# Altium footprint library STPS5L25BTR.PcbLib: 1 footprints
Each footprint in its own frame and in the unit in brackets; x right, y up, seen from the top. Pads: shape width x height; smd on the part's side, far side on the other; paste and mask are expansions set on the pad; w line width, h text height; cw(c..) or ccw(c..) is an arc to the next point about the centre after c.
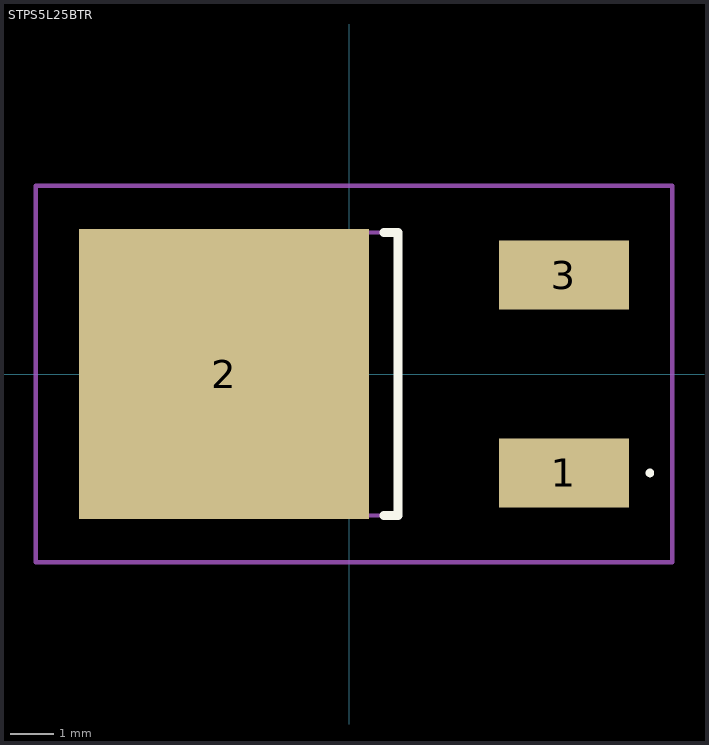
[diagram p0: the footprint, top view; thin cyan lines are the x and y axes]

## STPS5L25BTR [mm]
pads (3):
  rect 3x1.6 smd: 1(4.965,-2.286) 3(4.965,2.286)
  rect 6.7x6.7 smd: 2(-2.885,0)
Top Overlay:
  lines w0.1: 6.9,-2.286 6.9,-2.286 ; 6.9,-2.286 ccw(c6.95,-2.286) 7,-2.286 ; 6.9,-2.286 cw(c6.95,-2.286) 7,-2.286 ; 7,-2.286 7,-2.286
  lines w0.2: 0.8,-3.27 1.13,-3.27 1.13,3.27 0.8,3.27
Mechanical 15:
  lines w0.1: -4.965,-3.27 1.13,-3.27 1.13,3.27 -4.965,3.27 -4.965,-3.27
Mechanical 20:
  lines w0.1: -7.235,-4.35 7.465,-4.35 7.465,4.35 -7.235,4.35 -7.235,-4.35